# Altium integrated library TLV3544IPWR.IntLib: 1 symbol
Pins are listed as number, name and electrical type; pins without a type are passive.

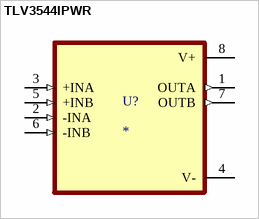
[diagram p0: symbol TLV3544IPWR]

## TLV3544IPWR
designator U?
MP: TLV3544IPWR; Package: None; Price: None; Value: *; Availability: Unavailable
footprint SOP65P640X120-14N
pins: 1 OUTA (out), 2 -INA (in), 3 +INA (in), 4 V- (power), 5 +INB (in), 6 -INB (in), 7 OUTB (out), 8 V+ (power)